# EAGLE library part OLED_MODULE (library custom)
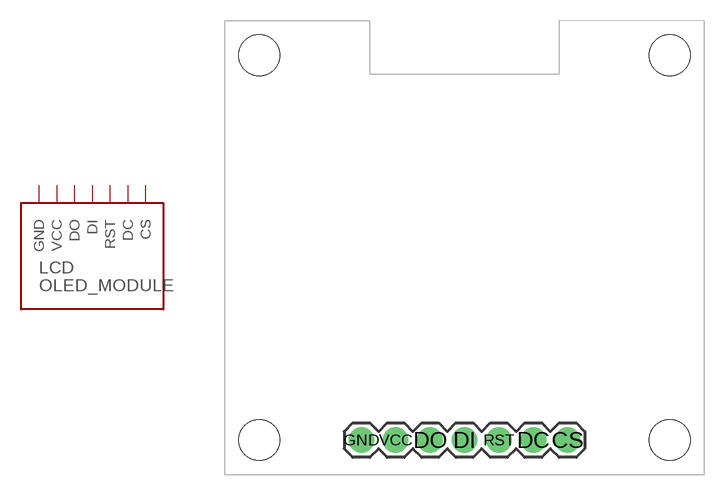
[diagram p117: symbol with the pads of OLED_MODULE_1.3; footprint OLED_MODULE_1.3]

Designator prefix LCD

## OLED_MODULE  [OLED_MODULE_1.3]
CS  CS
DC  DC
DI  DI
DO  DO
GND  GND
RST  RST
VCC  VCC

## Footprint OLED_MODULE_1.3 (pad centres in mm)
drill 1.016 pad 1.88: CS 7.62,0; DC 5.08,0; DI 0,0; DO -2.54,0; GND -7.62,0; RST 2.54,0; VCC -5.08,0
hole 3 at -15.16,0
hole 3 at 15.16,0
hole 3 at 15.16,28.42
hole 3 at -15.16,28.42